# Altium footprint library PB_YamahaP45_fix.PcbLib: 1 footprints
Each footprint in its own frame and in the unit in brackets; x right, y up, seen from the top. Pads: shape width x height; smd on the part's side, far side on the other; paste and mask are expansions set on the pad; w line width, h text height; cw(c..) or ccw(c..) is an arc to the next point about the centre after c.
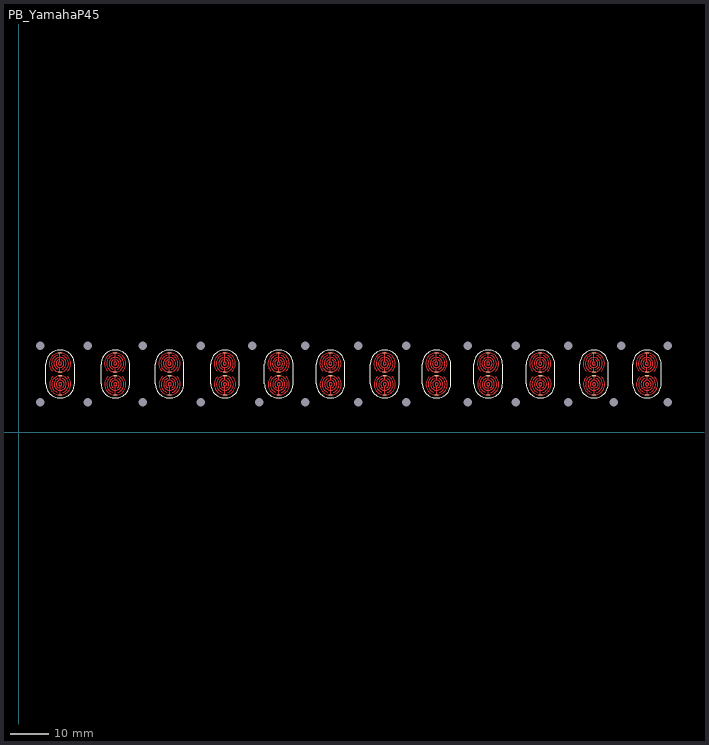
[diagram p0: the footprint, top view; thin cyan lines are the x and y axes]

## PB_YamahaP45 [mm]
pads (74):
  rrect50% 1x0.3 smd: 1(10.65,20.461) 2(10.65,15.5) 3(10.7,14.55) 4(10.7,9.589) 5(24.9,20.461) 6(24.9,15.5) 7(24.95,14.55) 8(24.95,9.589) 9(38.95,20.461) 10(38.95,15.5) 11(39,14.55) 12(39,9.589) 13(53.25,20.461) 14(53.25,15.5) 15(53.3,14.55) 16(53.3,9.589) 17(67.15,20.461) 18(67.15,15.5) 19(67.2,14.55) 20(67.2,9.589) 21(80.55,20.461) 22(80.55,15.5) 23(80.6,14.55) 24(80.6,9.589) 25(94.55,20.461) 26(94.55,15.5) 27(94.6,14.55) 28(94.6,9.589) 29(107.95,20.461) 30(107.95,15.5) 31(108,14.55) 32(108,9.589) 33(121.3,20.461) 34(121.3,15.5) 35(121.35,14.55) 36(121.35,9.589) 37(134.8,20.461) 38(134.8,15.5) 39(134.85,14.55) 40(134.85,9.589) 41(148.65,20.461) 42(148.65,15.5) 43(148.7,14.55) 44(148.7,9.589) 45(162.35,20.461) 46(162.35,15.5) 47(162.4,14.55) 48(162.4,9.589)
  round 0 hole 2.2 unplated: 1337(5.5,7.7) 1337(5.5,22.3) 1337(17.8,7.7) 1337(17.8,22.3) 1337(32,7.7) 1337(32,22.3) 1337(47,7.7) 1337(47,22.3) 1337(60.4,22.3) 1337(62.2,7.7) 1337(74.1,7.7) 1337(74.1,22.3) 1337(87.7,7.7) 1337(87.7,22.3) 1337(100.2,7.7) 1337(100.2,22.3) 1337(116,7.7) 1337(116,22.3) 1337(128.4,7.7) 1337(128.4,22.3) 1337(142,7.7) 1337(142,22.3) 1337(153.75,7.7) 1337(155.7,22.3) 1337(167.8,7.7) 1337(167.8,22.3)
Top Layer:
  circle w0.254: c24.95,12.35 r0.4
  circle w0.254: c24.9,17.7 r0.4
  circle w0.254: c10.65,17.7 r0.4
  circle w0.254: c10.7,12.35 r0.4
  circle w0.254: c39,12.35 r0.4
  circle w0.254: c38.95,17.7 r0.4
  circle w0.254: c53.3,12.35 r0.4
  circle w0.254: c53.25,17.7 r0.4
  circle w0.254: c67.2,12.35 r0.4
  circle w0.254: c67.15,17.7 r0.4
  circle w0.254: c80.6,12.35 r0.4
  circle w0.254: c80.55,17.7 r0.4
  circle w0.254: c94.6,12.35 r0.4
  circle w0.254: c94.55,17.7 r0.4
  circle w0.254: c108,12.35 r0.4
  circle w0.254: c107.95,17.7 r0.4
  circle w0.254: c121.35,12.35 r0.4
  circle w0.254: c121.3,17.7 r0.4
  circle w0.254: c134.85,12.35 r0.4
  circle w0.254: c134.8,17.7 r0.4
  circle w0.254: c148.7,12.35 r0.4
  circle w0.254: c148.65,17.7 r0.4
  circle w0.254: c162.4,12.35 r0.4
  circle w0.254: c162.35,17.7 r0.4
  lines w0.254: 8.669,15.776 cw(c10.65,17.7) 12.629,15.774 ; 8.721,14.276 ccw(c10.7,12.35) 12.681,14.274 ; 9.959,10.275 cw(c10.7,12.35) 11.351,10.245 ; 9.999,19.804 ccw(c10.65,17.7) 11.391,19.775 ; 10.063,16.232 cw(c10.65,17.7) 11.194,16.216 ; 10.156,13.834 ccw(c10.7,12.35) 11.287,13.818 ; 10.189,18.622 ccw(c10.65,17.7) 11.111,18.622 ; 10.239,11.428 cw(c10.7,12.35) 11.161,11.428 ; 10.65,15.5 10.65,16.6 ; 10.65,18.1 10.65,19.3 10.65,20.461 ; 10.7,9.589 10.7,10.75 10.7,11.95 ; 10.7,13.45 10.7,14.55 ; 22.919,15.776 cw(c24.9,17.7) 26.879,15.774 ; 22.971,14.276 ccw(c24.95,12.35) 26.931,14.274 ; 24.209,10.275 cw(c24.95,12.35) 25.601,10.245 ; 24.249,19.804 ccw(c24.9,17.7) 25.641,19.775 ; 24.313,16.232 cw(c24.9,17.7) 25.444,16.216 ; 24.406,13.834 ccw(c24.95,12.35) 25.537,13.818 ; 24.439,18.622 ccw(c24.9,17.7) 25.361,18.622 ; 24.489,11.428 cw(c24.95,12.35) 25.411,11.428 ; 24.9,15.5 24.9,16.6 ; 24.9,18.1 24.9,19.3 24.9,20.461 ; 24.95,9.589 24.95,10.75 24.95,11.95 ; 24.95,13.45 24.95,14.55 ; 36.969,15.776 cw(c38.95,17.7) 40.929,15.774 ; 37.021,14.276 ccw(c39,12.35) 40.981,14.274 ; 38.259,10.275 cw(c39,12.35) 39.651,10.245 ; 38.299,19.804 ccw(c38.95,17.7) 39.691,19.775 ; 38.363,16.232 cw(c38.95,17.7) 39.494,16.216 ; 38.456,13.834 ccw(c39,12.35) 39.587,13.818 ; 38.489,18.622 ccw(c38.95,17.7) 39.411,18.622 ; 38.539,11.428 cw(c39,12.35) 39.461,11.428 ; 38.95,15.5 38.95,16.6 ; 38.95,18.1 38.95,19.3 38.95,20.461 ; 39,9.589 39,10.75 39,11.95 ; 39,13.45 39,14.55 ; 51.269,15.776 cw(c53.25,17.7) 55.229,15.774 ; 51.321,14.276 ccw(c53.3,12.35) 55.281,14.274 ; 52.559,10.275 cw(c53.3,12.35) 53.951,10.245 ; 52.599,19.804 ccw(c53.25,17.7) 53.991,19.775 ; 52.663,16.232 cw(c53.25,17.7) 53.794,16.216 ; 52.756,13.834 ccw(c53.3,12.35) 53.887,13.818 ; 52.789,18.622 ccw(c53.25,17.7) 53.711,18.622 ; 52.839,11.428 cw(c53.3,12.35) 53.761,11.428 ; 53.25,15.5 53.25,16.6 ; 53.25,18.1 53.25,19.3 53.25,20.461 ; 53.3,9.589 53.3,10.75 53.3,11.95 ; 53.3,13.45 53.3,14.55 ; 65.169,15.776 cw(c67.15,17.7) 69.129,15.774 ; 65.221,14.276 ccw(c67.2,12.35) 69.181,14.274 ; 66.459,10.275 cw(c67.2,12.35) 67.851,10.245 ; 66.499,19.804 ccw(c67.15,17.7) 67.891,19.775 ; 66.563,16.232 cw(c67.15,17.7) 67.694,16.216 ; 66.656,13.834 ccw(c67.2,12.35) 67.787,13.818 ; 66.689,18.622 ccw(c67.15,17.7) 67.611,18.622 ; 66.739,11.428 cw(c67.2,12.35) 67.661,11.428 ; 67.15,15.5 67.15,16.6 ; 67.15,18.1 67.15,19.3 67.15,20.461 ; 67.2,9.589 67.2,10.75 67.2,11.95 ; 67.2,13.45 67.2,14.55 ; 78.569,15.776 cw(c80.55,17.7) 82.529,15.774 ; 78.621,14.276 ccw(c80.6,12.35) 82.581,14.274 ; 79.859,10.275 cw(c80.6,12.35) 81.251,10.245 ; 79.899,19.804 ccw(c80.55,17.7) 81.291,19.775 ; 79.963,16.232 cw(c80.55,17.7) 81.094,16.216 ; 80.056,13.834 ccw(c80.6,12.35) 81.187,13.818 ; 80.089,18.622 ccw(c80.55,17.7) 81.011,18.622 ; 80.139,11.428 cw(c80.6,12.35) 81.061,11.428 ; 80.55,15.5 80.55,16.6 ; 80.55,18.1 80.55,19.3 80.55,20.461 ; 80.6,9.589 80.6,10.75 80.6,11.95 ; 80.6,13.45 80.6,14.55 ; 92.569,15.776 cw(c94.55,17.7) 96.529,15.774 ; 92.621,14.276 ccw(c94.6,12.35) 96.581,14.274 ; 93.859,10.275 cw(c94.6,12.35) 95.251,10.245 ; 93.899,19.804 ccw(c94.55,17.7) 95.291,19.775 ; 93.963,16.232 cw(c94.55,17.7) 95.094,16.216 ; 94.056,13.834 ccw(c94.6,12.35) 95.187,13.818 ; 94.089,18.622 ccw(c94.55,17.7) 95.011,18.622 ; 94.139,11.428 cw(c94.6,12.35) 95.061,11.428 ; 94.55,15.5 94.55,16.6 ; 94.55,18.1 94.55,19.3 94.55,20.461 ; 94.6,9.589 94.6,10.75 94.6,11.95 ; 94.6,13.45 94.6,14.55 ; 105.969,15.776 cw(c107.95,17.7) 109.929,15.774 ; 106.021,14.276 ccw(c108,12.35) 109.981,14.274 ; 107.259,10.275 cw(c108,12.35) 108.651,10.245 ; 107.299,19.804 ccw(c107.95,17.7) 108.691,19.775 ; 107.363,16.232 cw(c107.95,17.7) 108.494,16.216 ; 107.456,13.834 ccw(c108,12.35) 108.587,13.818 ; 107.489,18.622 ccw(c107.95,17.7) 108.411,18.622 ; 107.539,11.428 cw(c108,12.35) 108.461,11.428 ; 107.95,15.5 107.95,16.6 ; 107.95,18.1 107.95,19.3 107.95,20.461 ; 108,9.589 108,10.75 108,11.95 ; 108,13.45 108,14.55 ; 119.319,15.776 cw(c121.3,17.7) 123.279,15.774 ; 119.371,14.276 ccw(c121.35,12.35) 123.331,14.274 ; 120.609,10.275 cw(c121.35,12.35) 122.001,10.245 ; 120.649,19.804 ccw(c121.3,17.7) 122.041,19.775 ; 120.713,16.232 cw(c121.3,17.7) 121.844,16.216 ; 120.806,13.834 ccw(c121.35,12.35) 121.937,13.818 ; 120.839,18.622 ccw(c121.3,17.7) 121.761,18.622 ; 120.889,11.428 cw(c121.35,12.35) 121.811,11.428 ; 121.3,15.5 121.3,16.6 ; 121.3,18.1 121.3,19.3 121.3,20.461 ; 121.35,9.589 121.35,10.75 121.35,11.95 ; 121.35,13.45 121.35,14.55 ; 132.819,15.776 cw(c134.8,17.7) 136.779,15.774 ; 132.871,14.276 ccw(c134.85,12.35) 136.831,14.274 ; 134.109,10.275 cw(c134.85,12.35) 135.501,10.245 ; 134.149,19.804 ccw(c134.8,17.7) 135.541,19.775 ; 134.213,16.232 cw(c134.8,17.7) 135.344,16.216 ; 134.306,13.834 ccw(c134.85,12.35) 135.437,13.818 ; 134.339,18.622 ccw(c134.8,17.7) 135.261,18.622 ; 134.389,11.428 cw(c134.85,12.35) 135.311,11.428 ; 134.8,15.5 134.8,16.6 ; 134.8,18.1 134.8,19.3 134.8,20.461 ; 134.85,9.589 134.85,10.75 134.85,11.95 ; 134.85,13.45 134.85,14.55 ; 146.669,15.776 cw(c148.65,17.7) 150.629,15.774 ; 146.721,14.276 ccw(c148.7,12.35) 150.681,14.274 ; 147.959,10.275 cw(c148.7,12.35) 149.351,10.245 ; 147.999,19.804 ccw(c148.65,17.7) 149.391,19.775 ; 148.063,16.232 cw(c148.65,17.7) 149.194,16.216 ; 148.156,13.834 ccw(c148.7,12.35) 149.287,13.818 ; 148.189,18.622 ccw(c148.65,17.7) 149.111,18.622 ; 148.239,11.428 cw(c148.7,12.35) 149.161,11.428 ; 148.65,15.5 148.65,16.6 ; 148.65,18.1 148.65,19.3 148.65,20.461 ; 148.7,9.589 148.7,10.75 148.7,11.95 ; 148.7,13.45 148.7,14.55 ; 160.369,15.776 cw(c162.35,17.7) 164.329,15.774 ; 160.421,14.276 ccw(c162.4,12.35) 164.381,14.274 ; 161.659,10.275 cw(c162.4,12.35) 163.051,10.245 ; 161.699,19.804 ccw(c162.35,17.7) 163.091,19.775 ; 161.763,16.232 cw(c162.35,17.7) 162.894,16.216 ; 161.856,13.834 ccw(c162.4,12.35) 162.987,13.818 ; 161.889,18.622 ccw(c162.35,17.7) 162.811,18.622 ; 161.939,11.428 cw(c162.4,12.35) 162.861,11.428 ; 162.35,15.5 162.35,16.6 ; 162.35,18.1 162.35,19.3 162.35,20.461 ; 162.4,9.589 162.4,10.75 162.4,11.95 ; 162.4,13.45 162.4,14.55
Top Overlay:
  lines w0.254: 14.4,12.5 cw(c10.7,12.5) 7,12.5 7,17.5 cw(c10.7,17.5) 14.4,17.5 14.4,12.5 ; 14.4,12.5 14.4,12.5 ; 21.25,12.5 ccw(c24.95,12.5) 28.65,12.5 ; 21.25,12.5 ccw(c24.95,12.5) 28.65,12.5 ; 21.25,12.5 21.25,17.5 cw(c24.95,17.5) 28.65,17.5 28.65,12.5 ; 28.65,12.5 28.65,12.5 ; 42.7,12.5 cw(c39,12.5) 35.3,12.5 35.3,17.5 cw(c39,17.5) 42.7,17.5 42.7,12.5 ; 42.7,12.5 42.7,12.5 ; 57,12.5 cw(c53.3,12.5) 49.6,12.5 49.6,17.5 cw(c53.3,17.5) 57,17.5 57,12.5 ; 57,12.5 57,12.5 ; 70.9,12.5 cw(c67.2,12.5) 63.5,12.5 63.5,17.5 cw(c67.2,17.5) 70.9,17.5 70.9,12.5 ; 70.9,12.5 70.9,12.5 ; 84.3,12.5 cw(c80.6,12.5) 76.9,12.5 76.9,17.5 cw(c80.6,17.5) 84.3,17.5 84.3,12.5 ; 84.3,12.5 84.3,12.5 ; 98.3,12.5 cw(c94.6,12.5) 90.9,12.5 90.9,17.5 cw(c94.6,17.5) 98.3,17.5 98.3,12.5 ; 98.3,12.5 98.3,12.5 ; 111.7,12.5 cw(c108,12.5) 104.3,12.5 104.3,17.5 cw(c108,17.5) 111.7,17.5 111.7,12.5 ; 111.7,12.5 111.7,12.5 ; 138.55,12.5 cw(c134.85,12.5) 131.15,12.5 131.15,17.5 cw(c134.85,17.5) 138.55,17.5 138.55,12.5 ; 138.55,12.5 138.55,12.5 ; 138.55,12.5 138.55,12.5 ; 152.4,12.5 cw(c148.7,12.5) 145,12.5 145,17.5 cw(c148.7,17.5) 152.4,17.5 152.4,12.5 ; 152.4,12.5 152.4,12.5 ; 166.1,12.5 cw(c162.4,12.5) 158.7,12.5 158.7,17.5 cw(c162.4,17.5) 166.1,17.5 166.1,12.5 ; 166.1,12.5 166.1,12.5 ; 117.65,12.5 ccw(c121.35,12.5) 125.05,12.5 125.05,17.5 ccw(c121.35,17.5) 117.65,17.5 117.65,12.5